# Altium integrated library Resistors.IntLib: 4954 symbols (part 14 of 32)
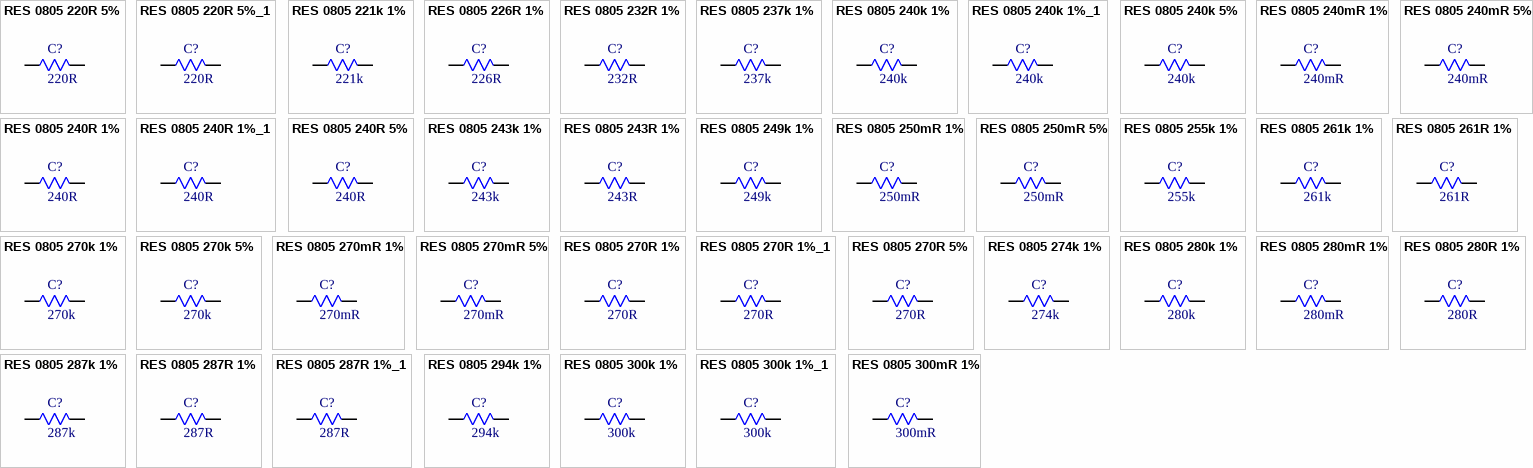
[diagram p136: symbols RES 0805 220R 5% to RES 0805 300mR 1%]

## RES 0805 226R 1%
designator C?, comment 226R
226R 1% 125mW 0805 Thick Film Resistor; Manufacturer: FOJAN; Manufacturer Part Number: FRC0805F2260TS; Voltage Rating: 150V; Supplier: LCSC; Supplier Part Number: C2999466; Resistance: 226R; Tolerance: 1%; Power: 125mW
footprint RES SMD 0805
pins: 1, 2

## RES 0805 232R 1%
designator C?, comment 232R
232R 1% 125mW 0805 Thick Film Resistor; Manufacturer: FOJAN; Manufacturer Part Number: FRC0805F2320TS; Voltage Rating: 150V; Supplier: LCSC; Supplier Part Number: C2933373; Resistance: 232R; Tolerance: 1%; Power: 125mW
footprint RES SMD 0805
pins: 1, 2

## RES 0805 237k 1%
designator C?, comment 237k
125mW 237kR 150V Thick Film Resistor 1% 0805 Chip Resistor - Surface Mount RoHS; Manufacturer: FOJAN; Manufacturer Part Number: FRC0805F2373TS; Supplier: LCSC; Supplier Part Number: C51048252; Resistance: 237k; Tolerance: 1%; Voltage Rating: 150V; Power: 125mW
footprint RES SMD 0805
pins: 1, 2

## RES 0805 240k 1%
designator C?, comment 240k
240kR 1% 125mW 0805 Thick Film Resistor; Manufacturer: FOJAN; Manufacturer Part Number: FRC0805F2403TS; Voltage Rating: 150V; Supplier: LCSC; Supplier Part Number: C2907245; Resistance: 240k; Tolerance: 1%; Power: 125mW
footprint RES SMD 0805
pins: 1, 2

## RES 0805 240k 1%_1
designator C?, comment 240k
125mW 240kR 400V Thick Film Resistor 1% 200ppm/â„ƒ 0805 Chip Resistor - Surface Mount RoHS; Manufacturer: FOJAN; Manufacturer Part Number: FRV0805F2403TS; Supplier: LCSC; Supplier Part Number: C51048340; Resistance: 240k; Tolerance: 1%; Voltage Rating: 400V; Power: 125mW
footprint RES SMD 0805
pins: 1, 2

## RES 0805 240k 5%
designator C?, comment 240k
240kR 5% 125mW 0805 Thick Film Resistor; Manufacturer: FOJAN; Manufacturer Part Number: FRC0805J244 TS; Voltage Rating: 150V; Supplier: LCSC; Supplier Part Number: C2960883; Resistance: 240k; Tolerance: 5%; Power: 125mW
footprint RES SMD 0805
pins: 1, 2

## RES 0805 240mR 1%
designator C?, comment 240mR
240mR 1% 125mW 0805 Thick Film Resistor; Manufacturer: FOJAN; Manufacturer Part Number: FRL0805FR240TS; Voltage Rating: 300V; Supplier: LCSC; Supplier Part Number: C2930216; Resistance: 240mR; Tolerance: 1%; Power: 125mW
footprint RES SMD 0805
pins: 1, 2

## RES 0805 240mR 5%
designator C?, comment 240mR
240mR 125mW Thick Film Resistor 300ppm/â„ƒ 5% 0805 Chip Resistor - Surface Mount RoHS; Manufacturer: FOJAN; Manufacturer Part Number: FRL0805JR240TS; Supplier: LCSC; Supplier Part Number: C7467398; Resistance: 240mR; Tolerance: 5%; Power: 125mW
footprint RES SMD 0805
pins: 1, 2

## RES 0805 240R 1%
designator C?, comment 240R
240R 1% 125mW 0805 Thick Film Resistor; Manufacturer: FOJAN; Manufacturer Part Number: FRC0805F2400TS; Voltage Rating: 150V; Supplier: LCSC; Supplier Part Number: C2933376; Resistance: 240R; Tolerance: 1%; Power: 125mW
footprint RES SMD 0805
pins: 1, 2

## RES 0805 240R 1%_1
designator C?, comment 240R
125mW 240R Thick Film Resistor 1% 100ppm/â„ƒ 0805 Chip Resistor - Surface Mount RoHS; Manufacturer: FOJAN; Manufacturer Part Number: FRQ0805F2400TS; Supplier: LCSC; Supplier Part Number: C7468676; Resistance: 240R; Tolerance: 1%; Power: 125mW
footprint RES SMD 0805
pins: 1, 2

## RES 0805 240R 5%
designator C?, comment 240R
240R 5% 125mW 0805 Thick Film Resistor; Manufacturer: FOJAN; Manufacturer Part Number: FRC0805J241 TS; Voltage Rating: 150V; Supplier: LCSC; Supplier Part Number: C3013236; Resistance: 240R; Tolerance: 5%; Power: 125mW
footprint RES SMD 0805
pins: 1, 2

## RES 0805 243k 1%
designator C?, comment 243k
243kR 1% 125mW 0805 Thick Film Resistor; Manufacturer: FOJAN; Manufacturer Part Number: FRC0805F2433TS; Voltage Rating: 150V; Supplier: LCSC; Supplier Part Number: C2930186; Resistance: 243k; Tolerance: 1%; Power: 125mW
footprint RES SMD 0805
pins: 1, 2

## RES 0805 243R 1%
designator C?, comment 243R
243R 1% 125mW 0805 Thick Film Resistor; Manufacturer: FOJAN; Manufacturer Part Number: FRC0805F2430TS; Voltage Rating: 150V; Supplier: LCSC; Supplier Part Number: C5159715; Resistance: 243R; Tolerance: 1%; Power: 125mW
footprint RES SMD 0805
pins: 1, 2

## RES 0805 249k 1%
designator C?, comment 249k
249kR 1% 125mW 0805 Thick Film Resistor; Manufacturer: FOJAN; Manufacturer Part Number: FRC0805F2493TS; Voltage Rating: 150V; Supplier: LCSC; Supplier Part Number: C3000730; Resistance: 249k; Tolerance: 1%; Power: 125mW
footprint RES SMD 0805
pins: 1, 2

## RES 0805 250mR 1%
designator C?, comment 250mR
250mR 1% 125mW 0805 Thick Film Resistor; Manufacturer: FOJAN; Manufacturer Part Number: FRL0805FR250TS; Voltage Rating: 300V; Supplier: LCSC; Supplier Part Number: C3000552; Resistance: 250mR; Tolerance: 1%; Power: 125mW
footprint RES SMD 0805
pins: 1, 2

## RES 0805 250mR 5%
designator C?, comment 250mR
250mR 5% 125mW 0805 Thick Film Resistor; Manufacturer: FOJAN; Manufacturer Part Number: FRL0805JR250TS; Voltage Rating: 300V; Supplier: LCSC; Supplier Part Number: C2930324; Resistance: 250mR; Tolerance: 5%; Power: 125mW
footprint RES SMD 0805
pins: 1, 2

## RES 0805 255k 1%
designator C?, comment 255k
255kR 1% 125mW 0805 Thick Film Resistor; Manufacturer: FOJAN; Manufacturer Part Number: FRC0805F2553TS; Voltage Rating: 150V; Supplier: LCSC; Supplier Part Number: C2933384; Resistance: 255k; Tolerance: 1%; Power: 125mW
footprint RES SMD 0805
pins: 1, 2

## RES 0805 261k 1%
designator C?, comment 261k
261kR 1% 125mW 0805 Thick Film Resistor; Manufacturer: FOJAN; Manufacturer Part Number: FRC0805F2613TS; Voltage Rating: 150V; Supplier: LCSC; Supplier Part Number: C2933387; Resistance: 261k; Tolerance: 1%; Power: 125mW
footprint RES SMD 0805
pins: 1, 2

## RES 0805 261R 1%
designator C?, comment 261R
125mW 261R 150V Thick Film Resistor 1% 100ppm/â„ƒ 0805 Chip Resistor - Surface Mount RoHS; Manufacturer: FOJAN; Manufacturer Part Number: FRC0805F2610TS; Supplier: LCSC; Supplier Part Number: C7467324; Resistance: 261R; Tolerance: 1%; Voltage Rating: 150V; Power: 125mW
footprint RES SMD 0805
pins: 1, 2

## RES 0805 270k 1%
designator C?, comment 270k
270kR 1% 125mW 0805 Thick Film Resistor; Manufacturer: FOJAN; Manufacturer Part Number: FRC0805F2703TS; Voltage Rating: 150V; Supplier: LCSC; Supplier Part Number: C2930189; Resistance: 270k; Tolerance: 1%; Power: 125mW
footprint RES SMD 0805
pins: 1, 2

## RES 0805 270k 5%
designator C?, comment 270k
270kR 5% 125mW 0805 Thick Film Resistor; Manufacturer: FOJAN; Manufacturer Part Number: FRC0805J274 TS; Voltage Rating: 150V; Supplier: LCSC; Supplier Part Number: C2907312; Resistance: 270k; Tolerance: 5%; Power: 125mW
footprint RES SMD 0805
pins: 1, 2

## RES 0805 270mR 1%
designator C?, comment 270mR
270mR 1% 125mW 0805 Thick Film Resistor; Manufacturer: FOJAN; Manufacturer Part Number: FRL0805FR270TS; Voltage Rating: 300V; Supplier: LCSC; Supplier Part Number: C2934263; Resistance: 270mR; Tolerance: 1%; Power: 125mW
footprint RES SMD 0805
pins: 1, 2

## RES 0805 270mR 5%
designator C?, comment 270mR
270mR 5% 125mW 0805 Thick Film Resistor; Manufacturer: FOJAN; Manufacturer Part Number: FRL0805JR270TS; Voltage Rating: 300V; Supplier: LCSC; Supplier Part Number: C2934279; Resistance: 270mR; Tolerance: 5%; Power: 125mW
footprint RES SMD 0805
pins: 1, 2

## RES 0805 270R 1%
designator C?, comment 270R
125mW 270R Thick Film Resistor 1% 100ppm/â„ƒ 0805 Chip Resistor - Surface Mount RoHS; Manufacturer: FOJAN; Manufacturer Part Number: FRQ0805F2700TS; Supplier: LCSC; Supplier Part Number: C7468600; Resistance: 270R; Tolerance: 1%; Power: 125mW
footprint RES SMD 0805
pins: 1, 2

## RES 0805 270R 1%_1
designator C?, comment 270R
270R 1% 125mW 0805 Thick Film Resistor; Manufacturer: FOJAN; Manufacturer Part Number: FRC0805F2700TS; Voltage Rating: 150V; Supplier: LCSC; Supplier Part Number: C2933389; Resistance: 270R; Tolerance: 1%; Power: 125mW
footprint RES SMD 0805
pins: 1, 2

## RES 0805 270R 5%
designator C?, comment 270R
270R 5% 125mW 0805 Thick Film Resistor; Manufacturer: FOJAN; Manufacturer Part Number: FRC0805J271 TS; Voltage Rating: 150V; Supplier: LCSC; Supplier Part Number: C2907313; Resistance: 270R; Tolerance: 5%; Power: 125mW
footprint RES SMD 0805
pins: 1, 2

## RES 0805 274k 1%
designator C?, comment 274k
274kR 1% 125mW 0805 Thick Film Resistor; Manufacturer: FOJAN; Manufacturer Part Number: FRC0805F2743TS; Voltage Rating: 150V; Supplier: LCSC; Supplier Part Number: C2933392; Resistance: 274k; Tolerance: 1%; Power: 125mW
footprint RES SMD 0805
pins: 1, 2

## RES 0805 280k 1%
designator C?, comment 280k
280kR 1% 125mW 0805 Thick Film Resistor; Manufacturer: FOJAN; Manufacturer Part Number: FRC0805F2803TS; Voltage Rating: 150V; Supplier: LCSC; Supplier Part Number: C5121536; Resistance: 280k; Tolerance: 1%; Power: 125mW
footprint RES SMD 0805
pins: 1, 2

## RES 0805 280mR 1%
designator C?, comment 280mR
280mR 1% 125mW 0805 Thick Film Resistor; Manufacturer: FOJAN; Manufacturer Part Number: FRL0805FR280TS; Voltage Rating: 300V; Supplier: LCSC; Supplier Part Number: C5159727; Resistance: 280mR; Tolerance: 1%; Power: 125mW
footprint RES SMD 0805
pins: 1, 2

## RES 0805 280R 1%
designator C?, comment 280R
280R 1% 125mW 0805 Thick Film Resistor; Manufacturer: FOJAN; Manufacturer Part Number: FRC0805F2800TS; Voltage Rating: 150V; Supplier: LCSC; Supplier Part Number: C2960739; Resistance: 280R; Tolerance: 1%; Power: 125mW
footprint RES SMD 0805
pins: 1, 2

## RES 0805 287k 1%
designator C?, comment 287k
287kR 1% 125mW 0805 Thick Film Resistor; Manufacturer: FOJAN; Manufacturer Part Number: FRC0805F2873TS; Voltage Rating: 150V; Supplier: LCSC; Supplier Part Number: C2933396; Resistance: 287k; Tolerance: 1%; Power: 125mW
footprint RES SMD 0805
pins: 1, 2

## RES 0805 287R 1%
designator C?, comment 287R
125mW 287R Thick Film Resistor 1% 100ppm/â„ƒ 0805 Chip Resistor - Surface Mount RoHS; Manufacturer: FOJAN; Manufacturer Part Number: FRQ0805F2870TS; Supplier: LCSC; Supplier Part Number: C7471244; Resistance: 287R; Tolerance: 1%; Power: 125mW
footprint RES SMD 0805
pins: 1, 2

## RES 0805 287R 1%_1
designator C?, comment 287R
125mW 287R 150V Thick Film Resistor 100ppm/â„ƒ 1% 0805 Chip Resistor - Surface Mount RoHS; Manufacturer: FOJAN; Manufacturer Part Number: FRC0805F2870TS; Supplier: LCSC; Supplier Part Number: C51048272; Resistance: 287R; Tolerance: 1%; Voltage Rating: 150V; Power: 125mW
footprint RES SMD 0805
pins: 1, 2

## RES 0805 294k 1%
designator C?, comment 294k
294kR 1% 125mW 0805 Thick Film Resistor; Manufacturer: FOJAN; Manufacturer Part Number: FRC0805F2943TS; Voltage Rating: 150V; Supplier: LCSC; Supplier Part Number: C2999631; Resistance: 294k; Tolerance: 1%; Power: 125mW
footprint RES SMD 0805
pins: 1, 2

## RES 0805 300k 1%
designator C?, comment 300k
300kR 1% 125mW 0805 Thick Film Resistor; Manufacturer: FOJAN; Manufacturer Part Number: FRC0805F3003TS; Voltage Rating: 150V; Supplier: LCSC; Supplier Part Number: C2907253; Resistance: 300k; Tolerance: 1%; Power: 125mW
footprint RES SMD 0805
pins: 1, 2

## RES 0805 300k 1%_1
designator C?, comment 300k
300kR 1% 125mW 0805 Thick Film Resistor; Manufacturer: FOJAN; Manufacturer Part Number: FRV0805F3003TS; Voltage Rating: 400V; Supplier: LCSC; Supplier Part Number: C5713480; Resistance: 300k; Tolerance: 1%; Power: 125mW
footprint RES SMD 0805
pins: 1, 2

## RES 0805 300mR 1%
designator C?, comment 300mR
300mR 1% 125mW 0805 Thick Film Resistor; Manufacturer: FOJAN; Manufacturer Part Number: FRL0805FR300TS; Voltage Rating: 300V; Supplier: LCSC; Supplier Part Number: C2934264; Resistance: 300mR; Tolerance: 1%; Power: 125mW
footprint RES SMD 0805
pins: 1, 2

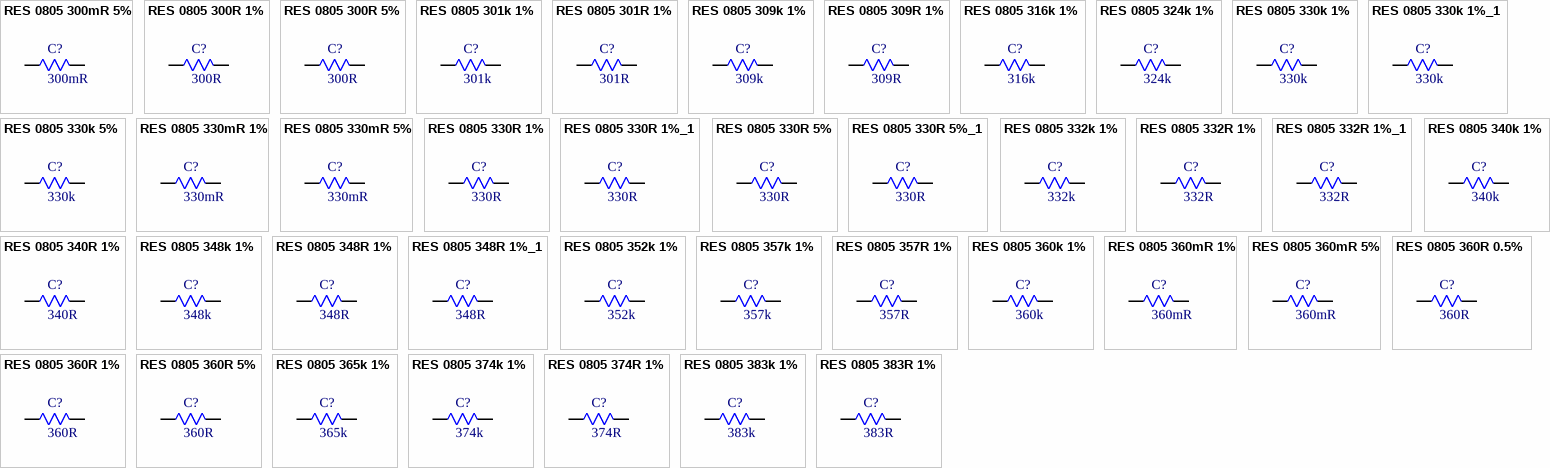
[diagram p53: symbols RES 0805 300mR 5% to RES 0805 383R 1%]

## RES 0805 300mR 5%
designator C?, comment 300mR
300mR 5% 125mW 0805 Thick Film Resistor; Manufacturer: FOJAN; Manufacturer Part Number: FRL0805JR300TS; Voltage Rating: 300V; Supplier: LCSC; Supplier Part Number: C2934280; Resistance: 300mR; Tolerance: 5%; Power: 125mW
footprint RES SMD 0805
pins: 1, 2

## RES 0805 300R 1%
designator C?, comment 300R
125mW 300R 150V Thick Film Resistor 1% 100ppm/â„ƒ 0805 Chip Resistor - Surface Mount RoHS; Manufacturer: FOJAN; Manufacturer Part Number: FRQ0805F3000TS; Supplier: LCSC; Supplier Part Number: C7468669; Resistance: 300R; Tolerance: 1%; Voltage Rating: 150V; Power: 125mW
footprint RES SMD 0805
pins: 1, 2

## RES 0805 300R 5%
designator C?, comment 300R
300R 5% 125mW 0805 Thick Film Resistor; Manufacturer: FOJAN; Manufacturer Part Number: FRC0805J301 TS; Voltage Rating: 150V; Supplier: LCSC; Supplier Part Number: C2907318; Resistance: 300R; Tolerance: 5%; Power: 125mW
footprint RES SMD 0805
pins: 1, 2

## RES 0805 301k 1%
designator C?, comment 301k
125mW 301kR 150V Thick Film Resistor 100ppm/â„ƒ 1% 0805 Chip Resistor - Surface Mount RoHS; Manufacturer: FOJAN; Manufacturer Part Number: FRC0805F3013TS; Supplier: LCSC; Supplier Part Number: C48533784; Resistance: 301k; Tolerance: 1%; Voltage Rating: 150V; Power: 125mW
footprint RES SMD 0805
pins: 1, 2

## RES 0805 301R 1%
designator C?, comment 301R
301R 1% 125mW 0805 Thick Film Resistor; Manufacturer: FOJAN; Manufacturer Part Number: FRC0805F3010TS; Voltage Rating: 150V; Supplier: LCSC; Supplier Part Number: C5121538; Resistance: 301R; Tolerance: 1%; Power: 125mW
footprint RES SMD 0805
pins: 1, 2

## RES 0805 309k 1%
designator C?, comment 309k
125mW 309kR 150V Thick Film Resistor 100ppm/â„ƒ 1% 0805 Chip Resistor - Surface Mount RoHS; Manufacturer: FOJAN; Manufacturer Part Number: FRC0805F3093TS; Supplier: LCSC; Supplier Part Number: C49196865; Resistance: 309k; Tolerance: 1%; Voltage Rating: 150V; Power: 125mW
footprint RES SMD 0805
pins: 1, 2

## RES 0805 309R 1%
designator C?, comment 309R
309R 1% 125mW 0805 Thick Film Resistor; Manufacturer: FOJAN; Manufacturer Part Number: FRC0805F3090TS; Voltage Rating: 150V; Supplier: LCSC; Supplier Part Number: C2999493; Resistance: 309R; Tolerance: 1%; Power: 125mW
footprint RES SMD 0805
pins: 1, 2

## RES 0805 316k 1%
designator C?, comment 316k
316kR 1% 125mW 0805 Thick Film Resistor; Manufacturer: FOJAN; Manufacturer Part Number: FRC0805F3163TS; Voltage Rating: 150V; Supplier: LCSC; Supplier Part Number: C5126007; Resistance: 316k; Tolerance: 1%; Power: 125mW
footprint RES SMD 0805
pins: 1, 2

## RES 0805 324k 1%
designator C?, comment 324k
324kR 1% 125mW 0805 Thick Film Resistor; Manufacturer: FOJAN; Manufacturer Part Number: FRC0805F3243TS; Voltage Rating: 150V; Supplier: LCSC; Supplier Part Number: C3013217; Resistance: 324k; Tolerance: 1%; Power: 125mW
footprint RES SMD 0805
pins: 1, 2

## RES 0805 330k 1%
designator C?, comment 330k
330kR 1% 125mW 0805 Thick Film Resistor; Manufacturer: FOJAN; Manufacturer Part Number: FRC0805F3303TS; Voltage Rating: 150V; Supplier: LCSC; Supplier Part Number: C2907257; Resistance: 330k; Tolerance: 1%; Power: 125mW
footprint RES SMD 0805
pins: 1, 2

## RES 0805 330k 1%_1
designator C?, comment 330k
125mW 330kR Thick Film Resistor 100ppm/â„ƒ 1% 0805 Chip Resistor - Surface Mount RoHS; Manufacturer: FOJAN; Manufacturer Part Number: FRV0805F3303TS; Supplier: LCSC; Supplier Part Number: C22375127; Resistance: 330k; Tolerance: 1%; Power: 125mW
footprint RES SMD 0805
pins: 1, 2

## RES 0805 330k 5%
designator C?, comment 330k
330kR 5% 125mW 0805 Thick Film Resistor; Manufacturer: FOJAN; Manufacturer Part Number: FRC0805J334 TS; Voltage Rating: 150V; Supplier: LCSC; Supplier Part Number: C2907320; Resistance: 330k; Tolerance: 5%; Power: 125mW
footprint RES SMD 0805
pins: 1, 2

## RES 0805 330mR 1%
designator C?, comment 330mR
330mR 1% 125mW 0805 Thick Film Resistor; Manufacturer: FOJAN; Manufacturer Part Number: FRL0805FR330TS; Voltage Rating: 300V; Supplier: LCSC; Supplier Part Number: C2934265; Resistance: 330mR; Tolerance: 1%; Power: 125mW
footprint RES SMD 0805
pins: 1, 2

## RES 0805 330mR 5%
designator C?, comment 330mR
330mR 5% 125mW 0805 Thick Film Resistor; Manufacturer: FOJAN; Manufacturer Part Number: FRL0805JR330TS; Voltage Rating: 300V; Supplier: LCSC; Supplier Part Number: C2930325; Resistance: 330mR; Tolerance: 5%; Power: 125mW
footprint RES SMD 0805
pins: 1, 2

## RES 0805 330R 1%
designator C?, comment 330R
330R 1% 125mW 0805 Thick Film Resistor; Manufacturer: FOJAN; Manufacturer Part Number: FRC0805F3300TS; Voltage Rating: 150V; Supplier: LCSC; Supplier Part Number: C2930157; Resistance: 330R; Tolerance: 1%; Power: 125mW
footprint RES SMD 0805
pins: 1, 2

## RES 0805 330R 1%_1
designator C?, comment 330R
330R 1% 125mW 0805 Thick Film Resistor AEC-Q200; Manufacturer: FOJAN; Manufacturer Part Number: FRQ0805F3300TS; Voltage Rating: 150V; Supplier: LCSC; Supplier Part Number: C5713448; Resistance: 330R; Tolerance: 1%; Power: 125mW
footprint RES SMD 0805
pins: 1, 2

## RES 0805 330R 5%
designator C?, comment 330R
330R 5% 125mW 0805 Thick Film Resistor; Manufacturer: FOJAN; Manufacturer Part Number: FRC0805J331 TS; Voltage Rating: 150V; Supplier: LCSC; Supplier Part Number: C2907321; Resistance: 330R; Tolerance: 5%; Power: 125mW
footprint RES SMD 0805
pins: 1, 2

## RES 0805 330R 5%_1
designator C?, comment 330R
125mW 330R 150V Thick Film Resistor 100ppm/â„ƒ 5% 0805 Chip Resistor - Surface Mount RoHS; Manufacturer: FOJAN; Manufacturer Part Number: FRR0805J331 TS; Supplier: LCSC; Supplier Part Number: C49196830; Resistance: 330R; Tolerance: 5%; Voltage Rating: 150V; Power: 125mW
footprint RES SMD 0805
pins: 1, 2

## RES 0805 332k 1%
designator C?, comment 332k
332kR 1% 125mW 0805 Thick Film Resistor; Manufacturer: FOJAN; Manufacturer Part Number: FRC0805F3323TS; Voltage Rating: 150V; Supplier: LCSC; Supplier Part Number: C5713304; Resistance: 332k; Tolerance: 1%; Power: 125mW
footprint RES SMD 0805
pins: 1, 2

## RES 0805 332R 1%
designator C?, comment 332R
125mW 332R 150V Thick Film Resistor 100ppm/â„ƒ 1% 0805 Chip Resistor - Surface Mount RoHS; Manufacturer: FOJAN; Manufacturer Part Number: FRC0805F3320TS; Supplier: LCSC; Supplier Part Number: C48533734; Resistance: 332R; Tolerance: 1%; Voltage Rating: 150V; Power: 125mW
footprint RES SMD 0805
pins: 1, 2

## RES 0805 332R 1%_1
designator C?, comment 332R
125mW 332R 150V Thick Film Resistor 1% 100ppm/â„ƒ 0805 Chip Resistor - Surface Mount RoHS; Manufacturer: FOJAN; Manufacturer Part Number: FRQ0805F3320TS; Supplier: LCSC; Supplier Part Number: C7468670; Resistance: 332R; Tolerance: 1%; Voltage Rating: 150V; Power: 125mW
footprint RES SMD 0805
pins: 1, 2

## RES 0805 340k 1%
designator C?, comment 340k
340kR 1% 125mW 0805 Thick Film Resistor; Manufacturer: FOJAN; Manufacturer Part Number: FRC0805F3403TS; Voltage Rating: 150V; Supplier: LCSC; Supplier Part Number: C2933421; Resistance: 340k; Tolerance: 1%; Power: 125mW
footprint RES SMD 0805
pins: 1, 2

## RES 0805 340R 1%
designator C?, comment 340R
125mW 340R 150V Thick Film Resistor 1% 100ppm/â„ƒ 0805 Chip Resistor - Surface Mount RoHS; Manufacturer: FOJAN; Manufacturer Part Number: FRC0805F3400TS; Supplier: LCSC; Supplier Part Number: C7467322; Resistance: 340R; Tolerance: 1%; Voltage Rating: 150V; Power: 125mW
footprint RES SMD 0805
pins: 1, 2

## RES 0805 348k 1%
designator C?, comment 348k
348kR 1% 125mW 0805 Thick Film Resistor; Manufacturer: FOJAN; Manufacturer Part Number: FRC0805F3483TS; Voltage Rating: 150V; Supplier: LCSC; Supplier Part Number: C5159717; Resistance: 348k; Tolerance: 1%; Power: 125mW
footprint RES SMD 0805
pins: 1, 2

## RES 0805 348R 1%
designator C?, comment 348R
348R 1% 125mW 0805 Thick Film Resistor; Manufacturer: FOJAN; Manufacturer Part Number: FRC0805F3480TS; Voltage Rating: 150V; Supplier: LCSC; Supplier Part Number: C5204013; Resistance: 348R; Tolerance: 1%; Power: 125mW
footprint RES SMD 0805
pins: 1, 2

## RES 0805 348R 1%_1
designator C?, comment 348R
348R 1% 125mW 0805 Thick Film Resistor AEC-Q200; Manufacturer: FOJAN; Manufacturer Part Number: FRQ0805F3480TS; Voltage Rating: 150V; Supplier: LCSC; Supplier Part Number: C5713449; Resistance: 348R; Tolerance: 1%; Power: 125mW
footprint RES SMD 0805
pins: 1, 2

## RES 0805 352k 1%
designator C?, comment 352k
125mW 352kR 150V Thick Film Resistor 1% 0805 Chip Resistor - Surface Mount RoHS; Manufacturer: FOJAN; Manufacturer Part Number: FRC0805F3523TS; Supplier: LCSC; Supplier Part Number: C51048263; Resistance: 352k; Tolerance: 1%; Voltage Rating: 150V; Power: 125mW
footprint RES SMD 0805
pins: 1, 2

## RES 0805 357k 1%
designator C?, comment 357k
125mW 357kR 150V Thick Film Resistor 100ppm/â„ƒ 1% 0805 Chip Resistor - Surface Mount RoHS; Manufacturer: FOJAN; Manufacturer Part Number: FRC0805F3573TS; Supplier: LCSC; Supplier Part Number: C48533730; Resistance: 357k; Tolerance: 1%; Voltage Rating: 150V; Power: 125mW
footprint RES SMD 0805
pins: 1, 2

## RES 0805 357R 1%
designator C?, comment 357R
357R 1% 125mW 0805 Thick Film Resistor; Manufacturer: FOJAN; Manufacturer Part Number: FRC0805F3570TS; Voltage Rating: 150V; Supplier: LCSC; Supplier Part Number: C42372163; Resistance: 357R; Tolerance: 1%; Power: 125mW
footprint RES SMD 0805
pins: 1, 2

## RES 0805 360k 1%
designator C?, comment 360k
360kR 1% 125mW 0805 Thick Film Resistor; Manufacturer: FOJAN; Manufacturer Part Number: FRC0805F3603TS; Voltage Rating: 150V; Supplier: LCSC; Supplier Part Number: C2907259; Resistance: 360k; Tolerance: 1%; Power: 125mW
footprint RES SMD 0805
pins: 1, 2

## RES 0805 360mR 1%
designator C?, comment 360mR
360mR 1% 125mW 0805 Thick Film Resistor; Manufacturer: FOJAN; Manufacturer Part Number: FRL0805FR360TS; Voltage Rating: 300V; Supplier: LCSC; Supplier Part Number: C2930217; Resistance: 360mR; Tolerance: 1%; Power: 125mW
footprint RES SMD 0805
pins: 1, 2

## RES 0805 360mR 5%
designator C?, comment 360mR
360mR 5% 125mW 0805 Thick Film Resistor; Manufacturer: FOJAN; Manufacturer Part Number: FRL0805JR360TS; Voltage Rating: 300V; Supplier: LCSC; Supplier Part Number: C3000777; Resistance: 360mR; Tolerance: 5%; Power: 125mW
footprint RES SMD 0805
pins: 1, 2

## RES 0805 360R 0.5%
designator C?, comment 360R
125mW 360R 150V Thick Film Resistor 100ppm/â„ƒ 0.5% 0805 Chip Resistor - Surface Mount RoHS; Manufacturer: FOJAN; Manufacturer Part Number: FRH0805D3600TS; Supplier: LCSC; Supplier Part Number: C48533737; Resistance: 360R; Tolerance: 0.5%; Voltage Rating: 150V; Power: 125mW
footprint RES SMD 0805
pins: 1, 2

## RES 0805 360R 1%
designator C?, comment 360R
360R 1% 125mW 0805 Thick Film Resistor; Manufacturer: FOJAN; Manufacturer Part Number: FRC0805F3600TS; Voltage Rating: 150V; Supplier: LCSC; Supplier Part Number: C2930158; Resistance: 360R; Tolerance: 1%; Power: 125mW
footprint RES SMD 0805
pins: 1, 2

## RES 0805 360R 5%
designator C?, comment 360R
360R 5% 125mW 0805 Thick Film Resistor; Manufacturer: FOJAN; Manufacturer Part Number: FRD0805J361TS; Voltage Rating: 150V; Supplier: LCSC; Supplier Part Number: C2930280; Resistance: 360R; Tolerance: 5%; Power: 125mW
footprint RES SMD 0805
pins: 1, 2

## RES 0805 365k 1%
designator C?, comment 365k
365kR 1% 125mW 0805 Thick Film Resistor; Manufacturer: FOJAN; Manufacturer Part Number: FRC0805F3653TS; Voltage Rating: 150V; Supplier: LCSC; Supplier Part Number: C2999471; Resistance: 365k; Tolerance: 1%; Power: 125mW
footprint RES SMD 0805
pins: 1, 2

## RES 0805 374k 1%
designator C?, comment 374k
374kR 1% 125mW 0805 Thick Film Resistor; Manufacturer: FOJAN; Manufacturer Part Number: FRC0805F3743TS; Voltage Rating: 150V; Supplier: LCSC; Supplier Part Number: C2933427; Resistance: 374k; Tolerance: 1%; Power: 125mW
footprint RES SMD 0805
pins: 1, 2

## RES 0805 374R 1%
designator C?, comment 374R
374R 1% 125mW 0805 Thick Film Resistor; Manufacturer: FOJAN; Manufacturer Part Number: FRC0805F3740TS; Voltage Rating: 150V; Supplier: LCSC; Supplier Part Number: C2999634; Resistance: 374R; Tolerance: 1%; Power: 125mW
footprint RES SMD 0805
pins: 1, 2

## RES 0805 383k 1%
designator C?, comment 383k
383kR 1% 125mW 0805 Thick Film Resistor; Manufacturer: FOJAN; Manufacturer Part Number: FRC0805F3833TS; Voltage Rating: 150V; Supplier: LCSC; Supplier Part Number: C5713305; Resistance: 383k; Tolerance: 1%; Power: 125mW
footprint RES SMD 0805
pins: 1, 2

## RES 0805 383R 1%
designator C?, comment 383R
383R 1% 125mW 0805 Thick Film Resistor; Manufacturer: FOJAN; Manufacturer Part Number: FRC0805F3830TS; Voltage Rating: 150V; Supplier: LCSC; Supplier Part Number: C2999498; Resistance: 383R; Tolerance: 1%; Power: 125mW
footprint RES SMD 0805
pins: 1, 2

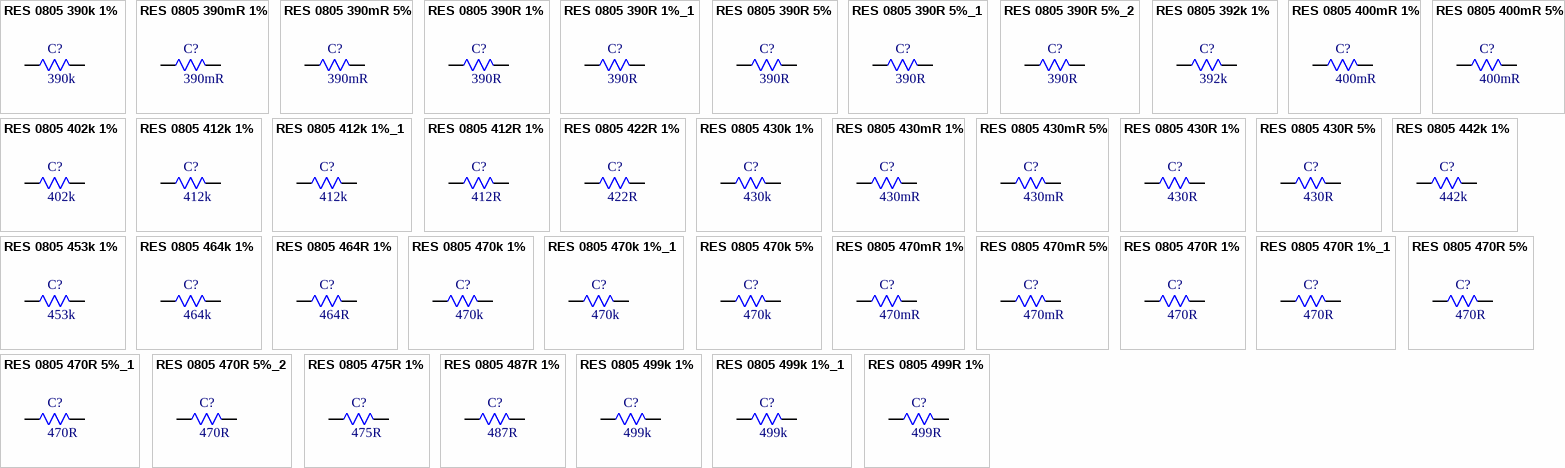
[diagram p54: symbols RES 0805 390k 1% to RES 0805 499R 1%]

## RES 0805 390k 1%
designator C?, comment 390k
390kR 1% 125mW 0805 Thick Film Resistor; Manufacturer: FOJAN; Manufacturer Part Number: FRC0805F3903TS; Voltage Rating: 150V; Supplier: LCSC; Supplier Part Number: C2907260; Resistance: 390k; Tolerance: 1%; Power: 125mW
footprint RES SMD 0805
pins: 1, 2

## RES 0805 390mR 1%
designator C?, comment 390mR
390mR 1% 125mW 0805 Thick Film Resistor; Manufacturer: FOJAN; Manufacturer Part Number: FRL0805FR390TS; Voltage Rating: 300V; Supplier: LCSC; Supplier Part Number: C2930218; Resistance: 390mR; Tolerance: 1%; Power: 125mW
footprint RES SMD 0805
pins: 1, 2

## RES 0805 390mR 5%
designator C?, comment 390mR
390mR 5% 125mW 0805 Thick Film Resistor; Manufacturer: FOJAN; Manufacturer Part Number: FRL0805JR390TS; Voltage Rating: 300V; Supplier: LCSC; Supplier Part Number: C2960746; Resistance: 390mR; Tolerance: 5%; Power: 125mW
footprint RES SMD 0805
pins: 1, 2

## RES 0805 390R 1%
designator C?, comment 390R
390R 1% 125mW 0805 Thick Film Resistor; Manufacturer: FOJAN; Manufacturer Part Number: FRC0805F3900TS; Voltage Rating: 150V; Supplier: LCSC; Supplier Part Number: C2907261; Resistance: 390R; Tolerance: 1%; Power: 125mW
footprint RES SMD 0805
pins: 1, 2

## RES 0805 390R 1%_1
designator C?, comment 390R
125mW 390R Thick Film Resistor 1% 100ppm/â„ƒ 0805 Chip Resistor - Surface Mount RoHS; Manufacturer: FOJAN; Manufacturer Part Number: FRQ0805F3900TS; Supplier: LCSC; Supplier Part Number: C7468556; Resistance: 390R; Tolerance: 1%; Power: 125mW
footprint RES SMD 0805
pins: 1, 2

## RES 0805 390R 5%
designator C?, comment 390R
390R 5% 125mW 0805 Thick Film Resistor; Manufacturer: FOJAN; Manufacturer Part Number: FRC0805J391 TS; Voltage Rating: 150V; Supplier: LCSC; Supplier Part Number: C2933548; Resistance: 390R; Tolerance: 5%; Power: 125mW
footprint RES SMD 0805
pins: 1, 2

## RES 0805 390R 5%_1
designator C?, comment 390R
390R 5% 125mW 0805 Thick Film Resistor; Manufacturer: FOJAN; Manufacturer Part Number: FRD0805J391 TS; Voltage Rating: 150V; Supplier: LCSC; Supplier Part Number: C2934164; Resistance: 390R; Tolerance: 5%; Power: 125mW
footprint RES SMD 0805
pins: 1, 2

## RES 0805 390R 5%_2
designator C?, comment 390R
125mW 390R 150V Thick Film Resistor 100ppm/â„ƒ 5% 0805 Chip Resistor - Surface Mount RoHS; Manufacturer: FOJAN; Manufacturer Part Number: FRR0805J391 TS; Supplier: LCSC; Supplier Part Number: C49196831; Resistance: 390R; Tolerance: 5%; Voltage Rating: 150V; Power: 125mW
footprint RES SMD 0805
pins: 1, 2

## RES 0805 392k 1%
designator C?, comment 392k
392kR 1% 125mW 0805 Thick Film Resistor; Manufacturer: FOJAN; Manufacturer Part Number: FRC0805F3923TS; Voltage Rating: 150V; Supplier: LCSC; Supplier Part Number: C5159718; Resistance: 392k; Tolerance: 1%; Power: 125mW
footprint RES SMD 0805
pins: 1, 2

## RES 0805 400mR 1%
designator C?, comment 400mR
400mR 1% 125mW 0805 Thick Film Resistor; Manufacturer: FOJAN; Manufacturer Part Number: FRL0805FR400TS; Voltage Rating: 300V; Supplier: LCSC; Supplier Part Number: C2934266; Resistance: 400mR; Tolerance: 1%; Power: 125mW
footprint RES SMD 0805
pins: 1, 2

## RES 0805 400mR 5%
designator C?, comment 400mR
400mR 5% 125mW 0805 Thick Film Resistor; Manufacturer: FOJAN; Manufacturer Part Number: FRL0805JR400TS; Voltage Rating: 300V; Supplier: LCSC; Supplier Part Number: C3000778; Resistance: 400mR; Tolerance: 5%; Power: 125mW
footprint RES SMD 0805
pins: 1, 2

## RES 0805 402k 1%
designator C?, comment 402k
402kR 1% 125mW 0805 Thick Film Resistor; Manufacturer: FOJAN; Manufacturer Part Number: FRC0805F4023TS; Voltage Rating: 150V; Supplier: LCSC; Supplier Part Number: C2930428; Resistance: 402k; Tolerance: 1%; Power: 125mW
footprint RES SMD 0805
pins: 1, 2

## RES 0805 412k 1%
designator C?, comment 412k
125mW 412kR 150V Thick Film Resistor 1% 100ppm/â„ƒ 0805 Chip Resistor - Surface Mount RoHS; Manufacturer: FOJAN; Manufacturer Part Number: FRC0805F4123TS; Supplier: LCSC; Supplier Part Number: C7467379; Resistance: 412k; Tolerance: 1%; Voltage Rating: 150V; Power: 125mW
footprint RES SMD 0805
pins: 1, 2

## RES 0805 412k 1%_1
designator C?, comment 412k
125mW 412kR Thick Film Resistor 1% 200ppm/â„ƒ 0805 Chip Resistor - Surface Mount RoHS; Manufacturer: FOJAN; Manufacturer Part Number: FRV0805F4123TS; Supplier: LCSC; Supplier Part Number: C22375107; Resistance: 412k; Tolerance: 1%; Power: 125mW
footprint RES SMD 0805
pins: 1, 2

## RES 0805 412R 1%
designator C?, comment 412R
412R 1% 125mW 0805 Thick Film Resistor; Manufacturer: FOJAN; Manufacturer Part Number: FRC0805F4120TS; Voltage Rating: 150V; Supplier: LCSC; Supplier Part Number: C5126135; Resistance: 412R; Tolerance: 1%; Power: 125mW
footprint RES SMD 0805
pins: 1, 2

## RES 0805 422R 1%
designator C?, comment 422R
422R 1% 125mW 0805 Thick Film Resistor; Manufacturer: FOJAN; Manufacturer Part Number: FRC0805F4220TS; Voltage Rating: 150V; Supplier: LCSC; Supplier Part Number: C5713307; Resistance: 422R; Tolerance: 1%; Power: 125mW
footprint RES SMD 0805
pins: 1, 2

## RES 0805 430k 1%
designator C?, comment 430k
430kR 1% 125mW 0805 Thick Film Resistor; Manufacturer: FOJAN; Manufacturer Part Number: FRC0805F4303TS; Voltage Rating: 150V; Supplier: LCSC; Supplier Part Number: C2930199; Resistance: 430k; Tolerance: 1%; Power: 125mW
footprint RES SMD 0805
pins: 1, 2

## RES 0805 430mR 1%
designator C?, comment 430mR
430mR 1% 125mW 0805 Thick Film Resistor; Manufacturer: FOJAN; Manufacturer Part Number: FRL0805FR430TS; Voltage Rating: 300V; Supplier: LCSC; Supplier Part Number: C2930219; Resistance: 430mR; Tolerance: 1%; Power: 125mW
footprint RES SMD 0805
pins: 1, 2

## RES 0805 430mR 5%
designator C?, comment 430mR
430mR 5% 125mW 0805 Thick Film Resistor; Manufacturer: FOJAN; Manufacturer Part Number: FRL0805JR430TS; Voltage Rating: 300V; Supplier: LCSC; Supplier Part Number: C2930326; Resistance: 430mR; Tolerance: 5%; Power: 125mW
footprint RES SMD 0805
pins: 1, 2

## RES 0805 430R 1%
designator C?, comment 430R
430R 1% 125mW 0805 Thick Film Resistor; Manufacturer: FOJAN; Manufacturer Part Number: FRC0805F4300TS; Voltage Rating: 150V; Supplier: LCSC; Supplier Part Number: C2907265; Resistance: 430R; Tolerance: 1%; Power: 125mW
footprint RES SMD 0805
pins: 1, 2

## RES 0805 430R 5%
designator C?, comment 430R
430R 5% 125mW 0805 Thick Film Resistor; Manufacturer: FOJAN; Manufacturer Part Number: FRC0805J431 TS; Voltage Rating: 150V; Supplier: LCSC; Supplier Part Number: C2907328; Resistance: 430R; Tolerance: 5%; Power: 125mW
footprint RES SMD 0805
pins: 1, 2

## RES 0805 442k 1%
designator C?, comment 442k
442kR 1% 125mW 0805 Thick Film Resistor; Manufacturer: FOJAN; Manufacturer Part Number: FRC0805F4423TS; Voltage Rating: 150V; Supplier: LCSC; Supplier Part Number: C2999502; Resistance: 442k; Tolerance: 1%; Power: 125mW
footprint RES SMD 0805
pins: 1, 2

## RES 0805 453k 1%
designator C?, comment 453k
453kR 1% 125mW 0805 Thick Film Resistor; Manufacturer: FOJAN; Manufacturer Part Number: FRC0805F4533TS; Voltage Rating: 150V; Supplier: LCSC; Supplier Part Number: C5121540; Resistance: 453k; Tolerance: 1%; Power: 125mW
footprint RES SMD 0805
pins: 1, 2

## RES 0805 464k 1%
designator C?, comment 464k
464kR 1% 125mW 0805 Thick Film Resistor; Manufacturer: FOJAN; Manufacturer Part Number: FRC0805F4643TS; Voltage Rating: 150V; Supplier: LCSC; Supplier Part Number: C5121541; Resistance: 464k; Tolerance: 1%; Power: 125mW
footprint RES SMD 0805
pins: 1, 2

## RES 0805 464R 1%
designator C?, comment 464R
464R 125mW 150V 100ppm/â„ƒ 1% 0805 Chip Resistor - Surface Mount RoHS; Manufacturer: FOJAN; Manufacturer Part Number: FRC0805F4640TS; Supplier: LCSC; Supplier Part Number: C42372164; Resistance: 464R; Tolerance: 1%; Voltage Rating: 150V; Power: 125mW
footprint RES SMD 0805
pins: 1, 2

## RES 0805 470k 1%
designator C?, comment 470k
470kR 1% 125mW 0805 Thick Film Resistor; Manufacturer: FOJAN; Manufacturer Part Number: FRC0805F4703TS; Voltage Rating: 150V; Supplier: LCSC; Supplier Part Number: C2960743; Resistance: 470k; Tolerance: 1%; Power: 125mW
footprint RES SMD 0805
pins: 1, 2

## RES 0805 470k 1%_1
designator C?, comment 470k
125mW 470kR 150V Thick Film Resistor 100ppm/â„ƒ 1% 0805 Chip Resistor - Surface Mount RoHS; Manufacturer: FOJAN; Manufacturer Part Number: FRQ0805F4703TS; Supplier: LCSC; Supplier Part Number: C18222268; Resistance: 470k; Tolerance: 1%; Voltage Rating: 150V; Power: 125mW
footprint RES SMD 0805
pins: 1, 2

## RES 0805 470k 5%
designator C?, comment 470k
470kR 5% 125mW 0805 Thick Film Resistor; Manufacturer: FOJAN; Manufacturer Part Number: FRC0805J474TS; Voltage Rating: 150V; Supplier: LCSC; Supplier Part Number: C2930293; Resistance: 470k; Tolerance: 5%; Power: 125mW
footprint RES SMD 0805
pins: 1, 2

## RES 0805 470mR 1%
designator C?, comment 470mR
470mR 1% 125mW 0805 Thick Film Resistor; Manufacturer: FOJAN; Manufacturer Part Number: FRL0805FR470TS; Voltage Rating: 300V; Supplier: LCSC; Supplier Part Number: C2930220; Resistance: 470mR; Tolerance: 1%; Power: 125mW
footprint RES SMD 0805
pins: 1, 2

## RES 0805 470mR 5%
designator C?, comment 470mR
470mR 5% 125mW 0805 Thick Film Resistor; Manufacturer: FOJAN; Manufacturer Part Number: FRL0805JR470TS; Voltage Rating: 300V; Supplier: LCSC; Supplier Part Number: C2930327; Resistance: 470mR; Tolerance: 5%; Power: 125mW
footprint RES SMD 0805
pins: 1, 2

## RES 0805 470R 1%
designator C?, comment 470R
470R 1% 125mW 0805 Thick Film Resistor; Manufacturer: FOJAN; Manufacturer Part Number: FRC0805F4700TS; Voltage Rating: 150V; Supplier: LCSC; Supplier Part Number: C2907267; Resistance: 470R; Tolerance: 1%; Power: 125mW
footprint RES SMD 0805
pins: 1, 2

## RES 0805 470R 1%_1
designator C?, comment 470R
125mW 470R Thick Film Resistor 1% 100ppm/â„ƒ 0805 Chip Resistor - Surface Mount RoHS; Manufacturer: FOJAN; Manufacturer Part Number: FRQ0805F4700TS; Supplier: LCSC; Supplier Part Number: C7468561; Resistance: 470R; Tolerance: 1%; Power: 125mW
footprint RES SMD 0805
pins: 1, 2

## RES 0805 470R 5%
designator C?, comment 470R
470R 5% 125mW 0805 Thick Film Resistor; Manufacturer: FOJAN; Manufacturer Part Number: FRC0805J471 TS; Voltage Rating: 150V; Supplier: LCSC; Supplier Part Number: C2907329; Resistance: 470R; Tolerance: 5%; Power: 125mW
footprint RES SMD 0805
pins: 1, 2

## RES 0805 470R 5%_1
designator C?, comment 470R
470R 5% 125mW 0805 Thick Film Resistor; Manufacturer: FOJAN; Manufacturer Part Number: FRD0805J471 TS; Voltage Rating: 150V; Supplier: LCSC; Supplier Part Number: C2934172; Resistance: 470R; Tolerance: 5%; Power: 125mW
footprint RES SMD 0805
pins: 1, 2

## RES 0805 470R 5%_2
designator C?, comment 470R
125mW 470R 150V Thick Film Resistor 100ppm/â„ƒ 5% 0805 Chip Resistor - Surface Mount RoHS; Manufacturer: FOJAN; Manufacturer Part Number: FRQ0805J471 TS; Supplier: LCSC; Supplier Part Number: C18222270; Resistance: 470R; Tolerance: 5%; Voltage Rating: 150V; Power: 125mW
footprint RES SMD 0805
pins: 1, 2

## RES 0805 475R 1%
designator C?, comment 475R
475R 1% 125mW 0805 Thick Film Resistor; Manufacturer: FOJAN; Manufacturer Part Number: FRC0805F4750TS; Voltage Rating: 150V; Supplier: LCSC; Supplier Part Number: C2933450; Resistance: 475R; Tolerance: 1%; Power: 125mW
footprint RES SMD 0805
pins: 1, 2

## RES 0805 487R 1%
designator C?, comment 487R
487R 1% 125mW 0805 Thick Film Resistor; Manufacturer: FOJAN; Manufacturer Part Number: FRC0805F4870TS; Voltage Rating: 150V; Supplier: LCSC; Supplier Part Number: C2999482; Resistance: 487R; Tolerance: 1%; Power: 125mW
footprint RES SMD 0805
pins: 1, 2

## RES 0805 499k 1%
designator C?, comment 499k
125mW 499kR 400V Thick Film Resistor 200ppm/â„ƒ 1% 0805 Chip Resistor - Surface Mount RoHS; Manufacturer: FOJAN; Manufacturer Part Number: FRV0805F4993TS; Supplier: LCSC; Supplier Part Number: C49196877; Resistance: 499k; Tolerance: 1%; Voltage Rating: 400V; Power: 125mW
footprint RES SMD 0805
pins: 1, 2

## RES 0805 499k 1%_1
designator C?, comment 499k
499kR 1% 125mW 0805 Thick Film Resistor; Manufacturer: FOJAN; Manufacturer Part Number: FRC0805F4993TS; Voltage Rating: 150V; Supplier: LCSC; Supplier Part Number: C2960934; Resistance: 499k; Tolerance: 1%; Power: 125mW
footprint RES SMD 0805
pins: 1, 2

## RES 0805 499R 1%
designator C?, comment 499R
499R 1% 125mW 0805 Thick Film Resistor; Manufacturer: FOJAN; Manufacturer Part Number: FRC0805F4990TS; Voltage Rating: 150V; Supplier: LCSC; Supplier Part Number: C2933453; Resistance: 499R; Tolerance: 1%; Power: 125mW
footprint RES SMD 0805
pins: 1, 2

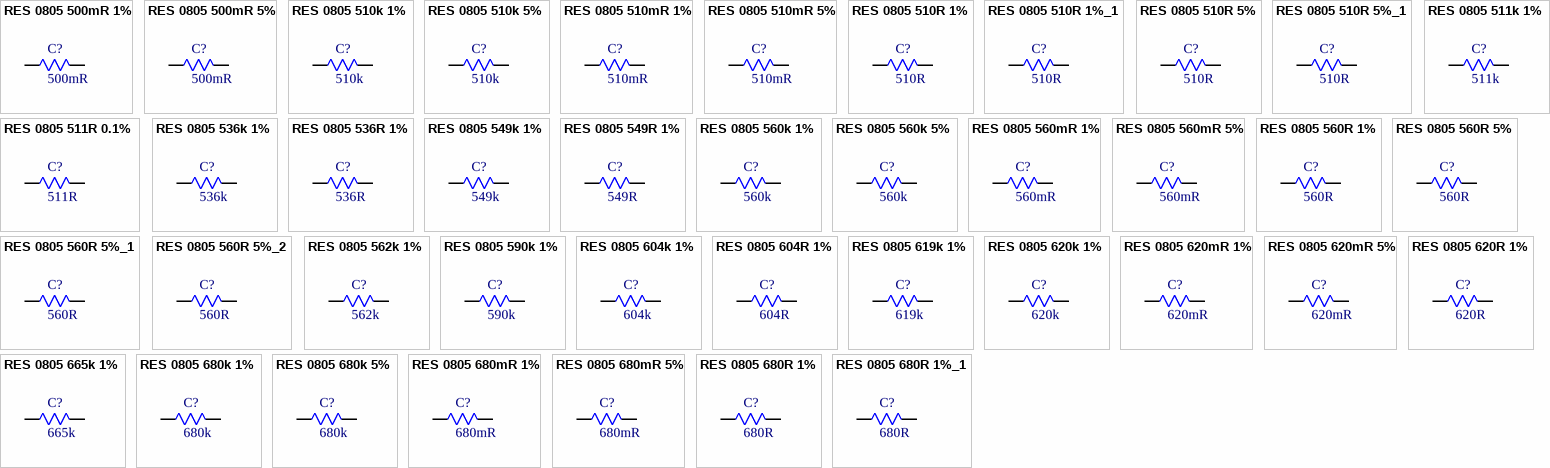
[diagram p55: symbols RES 0805 500mR 1% to RES 0805 680R 1%_1]

## RES 0805 500mR 1%
designator C?, comment 500mR
500mR 1% 125mW 0805 Thick Film Resistor; Manufacturer: FOJAN; Manufacturer Part Number: FRL0805FR500TS; Voltage Rating: 300V; Supplier: LCSC; Supplier Part Number: C2934267; Resistance: 500mR; Tolerance: 1%; Power: 125mW
footprint RES SMD 0805
pins: 1, 2

## RES 0805 500mR 5%
designator C?, comment 500mR
500mR 5% 125mW 0805 Thick Film Resistor; Manufacturer: FOJAN; Manufacturer Part Number: FRL0805JR500TS; Voltage Rating: 300V; Supplier: LCSC; Supplier Part Number: C2934281; Resistance: 500mR; Tolerance: 5%; Power: 125mW
footprint RES SMD 0805
pins: 1, 2

## RES 0805 510k 1%
designator C?, comment 510k
510kR 1% 125mW 0805 Thick Film Resistor; Manufacturer: FOJAN; Manufacturer Part Number: FRC0805F5103TS; Voltage Rating: 150V; Supplier: LCSC; Supplier Part Number: C2933462; Resistance: 510k; Tolerance: 1%; Power: 125mW
footprint RES SMD 0805
pins: 1, 2

## RES 0805 510k 5%
designator C?, comment 510k
510kR 5% 125mW 0805 Thick Film Resistor; Manufacturer: FOJAN; Manufacturer Part Number: FRC0805J514 TS; Voltage Rating: 150V; Supplier: LCSC; Supplier Part Number: C2907332; Resistance: 510k; Tolerance: 5%; Power: 125mW
footprint RES SMD 0805
pins: 1, 2

## RES 0805 510mR 1%
designator C?, comment 510mR
510mR 1% 125mW 0805 Thick Film Resistor; Manufacturer: FOJAN; Manufacturer Part Number: FRL0805FR510TS; Voltage Rating: 300V; Supplier: LCSC; Supplier Part Number: C2930221; Resistance: 510mR; Tolerance: 1%; Power: 125mW
footprint RES SMD 0805
pins: 1, 2

## RES 0805 510mR 5%
designator C?, comment 510mR
510mR 5% 125mW 0805 Thick Film Resistor; Manufacturer: FOJAN; Manufacturer Part Number: FRL0805JR510TS; Voltage Rating: 300V; Supplier: LCSC; Supplier Part Number: C2930328; Resistance: 510mR; Tolerance: 5%; Power: 125mW
footprint RES SMD 0805
pins: 1, 2

## RES 0805 510R 1%
designator C?, comment 510R
510R 1% 125mW 0805 Thick Film Resistor; Manufacturer: FOJAN; Manufacturer Part Number: FRC0805F5100TS; Voltage Rating: 150V; Supplier: LCSC; Supplier Part Number: C2907273; Resistance: 510R; Tolerance: 1%; Power: 125mW
footprint RES SMD 0805
pins: 1, 2

## RES 0805 510R 1%_1
designator C?, comment 510R
125mW 510R Thick Film Resistor 1% 100ppm/â„ƒ 0805 Chip Resistor - Surface Mount RoHS; Manufacturer: FOJAN; Manufacturer Part Number: FRQ0805F5100TS; Supplier: LCSC; Supplier Part Number: C7468585; Resistance: 510R; Tolerance: 1%; Power: 125mW
footprint RES SMD 0805
pins: 1, 2

## RES 0805 510R 5%
designator C?, comment 510R
510R 5% 125mW 0805 Thick Film Resistor; Manufacturer: FOJAN; Manufacturer Part Number: FRC0805J511 TS; Voltage Rating: 150V; Supplier: LCSC; Supplier Part Number: C2907333; Resistance: 510R; Tolerance: 5%; Power: 125mW
footprint RES SMD 0805
pins: 1, 2

## RES 0805 510R 5%_1
designator C?, comment 510R
510R 5% 125mW 0805 Thick Film Resistor; Manufacturer: FOJAN; Manufacturer Part Number: FRD0805J511 TS; Voltage Rating: 150V; Supplier: LCSC; Supplier Part Number: C2934176; Resistance: 510R; Tolerance: 5%; Power: 125mW
footprint RES SMD 0805
pins: 1, 2

## RES 0805 511k 1%
designator C?, comment 511k
511kR 1% 125mW 0805 Thick Film Resistor; Manufacturer: FOJAN; Manufacturer Part Number: FRC0805F5113TS; Voltage Rating: 150V; Supplier: LCSC; Supplier Part Number: C5159719; Resistance: 511k; Tolerance: 1%; Power: 125mW
footprint RES SMD 0805
pins: 1, 2

## RES 0805 511R 0.1%
designator C?, comment 511R
511R 125mW 150V Thick Film Resistor 0.1% 0805 Chip Resistor - Surface Mount RoHS; Manufacturer: FOJAN; Manufacturer Part Number: FRT0805B5110TSV; Supplier: LCSC; Supplier Part Number: C52033517; Resistance: 511R; Tolerance: 0.1%; Voltage Rating: 150V; Power: 125mW
footprint RES SMD 0805
pins: 1, 2

## RES 0805 536k 1%
designator C?, comment 536k
536kR 1% 125mW 0805 Thick Film Resistor; Manufacturer: FOJAN; Manufacturer Part Number: FRC0805F5363TS; Voltage Rating: 150V; Supplier: LCSC; Supplier Part Number: C42372166; Resistance: 536k; Tolerance: 1%; Power: 125mW
footprint RES SMD 0805
pins: 1, 2

## RES 0805 536R 1%
designator C?, comment 536R
536R 1% 125mW 0805 Thick Film Resistor; Manufacturer: FOJAN; Manufacturer Part Number: FRC0805F5360TS; Voltage Rating: 150V; Supplier: LCSC; Supplier Part Number: C5713309; Resistance: 536R; Tolerance: 1%; Power: 125mW
footprint RES SMD 0805
pins: 1, 2

## RES 0805 549k 1%
designator C?, comment 549k
549kR 1% 125mW 0805 Thick Film Resistor; Manufacturer: FOJAN; Manufacturer Part Number: FRC0805F5493TS; Voltage Rating: 150V; Supplier: LCSC; Supplier Part Number: C2933467; Resistance: 549k; Tolerance: 1%; Power: 125mW
footprint RES SMD 0805
pins: 1, 2

## RES 0805 549R 1%
designator C?, comment 549R
549R 125mW 150V Thick Film Resistor 100ppm/â„ƒ 1% 0805 Chip Resistor - Surface Mount RoHS; Manufacturer: FOJAN; Manufacturer Part Number: FRC0805F5490TS; Supplier: LCSC; Supplier Part Number: C5713310; Resistance: 549R; Tolerance: 1%; Voltage Rating: 150V; Power: 125mW
footprint RES SMD 0805
pins: 1, 2

## RES 0805 560k 1%
designator C?, comment 560k
560kR 1% 125mW 0805 Thick Film Resistor; Manufacturer: FOJAN; Manufacturer Part Number: FRC0805F5603TS; Voltage Rating: 150V; Supplier: LCSC; Supplier Part Number: C2930205; Resistance: 560k; Tolerance: 1%; Power: 125mW
footprint RES SMD 0805
pins: 1, 2

## RES 0805 560k 5%
designator C?, comment 560k
560kR 5% 125mW 0805 Thick Film Resistor; Manufacturer: FOJAN; Manufacturer Part Number: FRC0805J564 TS; Voltage Rating: 150V; Supplier: LCSC; Supplier Part Number: C2933556; Resistance: 560k; Tolerance: 5%; Power: 125mW
footprint RES SMD 0805
pins: 1, 2

## RES 0805 560mR 1%
designator C?, comment 560mR
560mR 1% 125mW 0805 Thick Film Resistor; Manufacturer: FOJAN; Manufacturer Part Number: FRL0805FR560TS; Voltage Rating: 300V; Supplier: LCSC; Supplier Part Number: C2934268; Resistance: 560mR; Tolerance: 1%; Power: 125mW
footprint RES SMD 0805
pins: 1, 2

## RES 0805 560mR 5%
designator C?, comment 560mR
560mR 5% 125mW 0805 Thick Film Resistor; Manufacturer: FOJAN; Manufacturer Part Number: FRL0805JR560TS; Voltage Rating: 300V; Supplier: LCSC; Supplier Part Number: C2974115; Resistance: 560mR; Tolerance: 5%; Power: 125mW
footprint RES SMD 0805
pins: 1, 2

## RES 0805 560R 1%
designator C?, comment 560R
560R 1% 125mW 0805 Thick Film Resistor; Manufacturer: FOJAN; Manufacturer Part Number: FRC0805F5600TS; Voltage Rating: 150V; Supplier: LCSC; Supplier Part Number: C2907274; Resistance: 560R; Tolerance: 1%; Power: 125mW
footprint RES SMD 0805
pins: 1, 2

## RES 0805 560R 5%
designator C?, comment 560R
560R 5% 125mW 0805 Thick Film Resistor AEC-Q200; Manufacturer: FOJAN; Manufacturer Part Number: FRQ0805J561 TS; Voltage Rating: 150V; Supplier: LCSC; Supplier Part Number: C2934404; Resistance: 560R; Tolerance: 5%; Power: 125mW
footprint RES SMD 0805
pins: 1, 2

## RES 0805 560R 5%_1
designator C?, comment 560R
560R 5% 125mW 0805 Thick Film Resistor; Manufacturer: FOJAN; Manufacturer Part Number: FRC0805J561 TS; Voltage Rating: 150V; Supplier: LCSC; Supplier Part Number: C2907335; Resistance: 560R; Tolerance: 5%; Power: 125mW
footprint RES SMD 0805
pins: 1, 2

## RES 0805 560R 5%_2
designator C?, comment 560R
560R 5% 125mW 0805 Thick Film Resistor; Manufacturer: FOJAN; Manufacturer Part Number: FRC0805J561TSD; Voltage Rating: 150V; Supplier: LCSC; Supplier Part Number: C2930302; Resistance: 560R; Tolerance: 5%; Power: 125mW
footprint RES SMD 0805
pins: 1, 2

## RES 0805 562k 1%
designator C?, comment 562k
562kR 1% 125mW 0805 Thick Film Resistor; Manufacturer: FOJAN; Manufacturer Part Number: FRC0805F5623TS; Voltage Rating: 150V; Supplier: LCSC; Supplier Part Number: C5713311; Resistance: 562k; Tolerance: 1%; Power: 125mW
footprint RES SMD 0805
pins: 1, 2

## RES 0805 590k 1%
designator C?, comment 590k
590kR 1% 125mW 0805 Thick Film Resistor; Manufacturer: FOJAN; Manufacturer Part Number: FRC0805F5903TS; Voltage Rating: 150V; Supplier: LCSC; Supplier Part Number: C2933473; Resistance: 590k; Tolerance: 1%; Power: 125mW
footprint RES SMD 0805
pins: 1, 2

## RES 0805 604k 1%
designator C?, comment 604k
604kR 1% 125mW 0805 Thick Film Resistor; Manufacturer: FOJAN; Manufacturer Part Number: FRC0805F6043TS; Voltage Rating: 150V; Supplier: LCSC; Supplier Part Number: C2933478; Resistance: 604k; Tolerance: 1%; Power: 125mW
footprint RES SMD 0805
pins: 1, 2

## RES 0805 604R 1%
designator C?, comment 604R
604R 1% 125mW 0805 Thick Film Resistor; Manufacturer: FOJAN; Manufacturer Part Number: FRC0805F6040TS; Voltage Rating: 150V; Supplier: LCSC; Supplier Part Number: C2999510; Resistance: 604R; Tolerance: 1%; Power: 125mW
footprint RES SMD 0805
pins: 1, 2

## RES 0805 619k 1%
designator C?, comment 619k
125mW 619kR 150V Thick Film Resistor 100ppm/â„ƒ 1% 0805 Chip Resistor - Surface Mount RoHS; Manufacturer: FOJAN; Manufacturer Part Number: FRC0805F6193TS; Supplier: LCSC; Supplier Part Number: C48533724; Resistance: 619k; Tolerance: 1%; Voltage Rating: 150V; Power: 125mW
footprint RES SMD 0805
pins: 1, 2

## RES 0805 620k 1%
designator C?, comment 620k
620kR 1% 125mW 0805 Thick Film Resistor; Manufacturer: FOJAN; Manufacturer Part Number: FRC0805F6203TS; Voltage Rating: 150V; Supplier: LCSC; Supplier Part Number: C2907278; Resistance: 620k; Tolerance: 1%; Power: 125mW
footprint RES SMD 0805
pins: 1, 2

## RES 0805 620mR 1%
designator C?, comment 620mR
620mR 1% 125mW 0805 Thick Film Resistor; Manufacturer: FOJAN; Manufacturer Part Number: FRL0805FR620TS; Voltage Rating: 300V; Supplier: LCSC; Supplier Part Number: C2930222; Resistance: 620mR; Tolerance: 1%; Power: 125mW
footprint RES SMD 0805
pins: 1, 2

## RES 0805 620mR 5%
designator C?, comment 620mR
620mR 5% 125mW 0805 Thick Film Resistor; Manufacturer: FOJAN; Manufacturer Part Number: FRL0805JR620TS; Voltage Rating: 300V; Supplier: LCSC; Supplier Part Number: C2934282; Resistance: 620mR; Tolerance: 5%; Power: 125mW
footprint RES SMD 0805
pins: 1, 2

## RES 0805 620R 1%
designator C?, comment 620R
620R 1% 125mW 0805 Thick Film Resistor; Manufacturer: FOJAN; Manufacturer Part Number: FRC0805F6200TS; Voltage Rating: 150V; Supplier: LCSC; Supplier Part Number: C2907279; Resistance: 620R; Tolerance: 1%; Power: 125mW
footprint RES SMD 0805
pins: 1, 2

## RES 0805 665k 1%
designator C?, comment 665k
125mW 665kR 150V Thick Film Resistor 100ppm/â„ƒ 1% 0805 Chip Resistor - Surface Mount RoHS; Manufacturer: FOJAN; Manufacturer Part Number: FRC0805F6653TS; Supplier: LCSC; Supplier Part Number: C48533721; Resistance: 665k; Tolerance: 1%; Voltage Rating: 150V; Power: 125mW
footprint RES SMD 0805
pins: 1, 2

## RES 0805 680k 1%
designator C?, comment 680k
680kR 1% 125mW 0805 Thick Film Resistor; Manufacturer: FOJAN; Manufacturer Part Number: FRC0805F6803TS; Voltage Rating: 150V; Supplier: LCSC; Supplier Part Number: C2907281; Resistance: 680k; Tolerance: 1%; Power: 125mW
footprint RES SMD 0805
pins: 1, 2

## RES 0805 680k 5%
designator C?, comment 680k
680kR 5% 125mW 0805 Thick Film Resistor; Manufacturer: FOJAN; Manufacturer Part Number: FRC0805J684 TS; Voltage Rating: 150V; Supplier: LCSC; Supplier Part Number: C2933563; Resistance: 680k; Tolerance: 5%; Power: 125mW
footprint RES SMD 0805
pins: 1, 2

## RES 0805 680mR 1%
designator C?, comment 680mR
680mR 1% 125mW 0805 Thick Film Resistor; Manufacturer: FOJAN; Manufacturer Part Number: FRL0805FR680TS; Voltage Rating: 300V; Supplier: LCSC; Supplier Part Number: C2934269; Resistance: 680mR; Tolerance: 1%; Power: 125mW
footprint RES SMD 0805
pins: 1, 2

## RES 0805 680mR 5%
designator C?, comment 680mR
680mR 5% 125mW 0805 Thick Film Resistor; Manufacturer: FOJAN; Manufacturer Part Number: FRL0805JR680TS; Voltage Rating: 300V; Supplier: LCSC; Supplier Part Number: C2934283; Resistance: 680mR; Tolerance: 5%; Power: 125mW
footprint RES SMD 0805
pins: 1, 2

## RES 0805 680R 1%
designator C?, comment 680R
680R 1% 125mW 0805 Thick Film Resistor; Manufacturer: FOJAN; Manufacturer Part Number: FRC0805F6800TS; Voltage Rating: 150V; Supplier: LCSC; Supplier Part Number: C2907282; Resistance: 680R; Tolerance: 1%; Power: 125mW
footprint RES SMD 0805
pins: 1, 2

## RES 0805 680R 1%_1
designator C?, comment 680R
680R 125mW Thick Film Resistor 1% 100ppm/â„ƒ 0805 Chip Resistor - Surface Mount RoHS; Manufacturer: FOJAN; Manufacturer Part Number: FRQ0805F6800TS; Supplier: LCSC; Supplier Part Number: C7468519; Resistance: 680R; Tolerance: 1%; Power: 125mW
footprint RES SMD 0805
pins: 1, 2

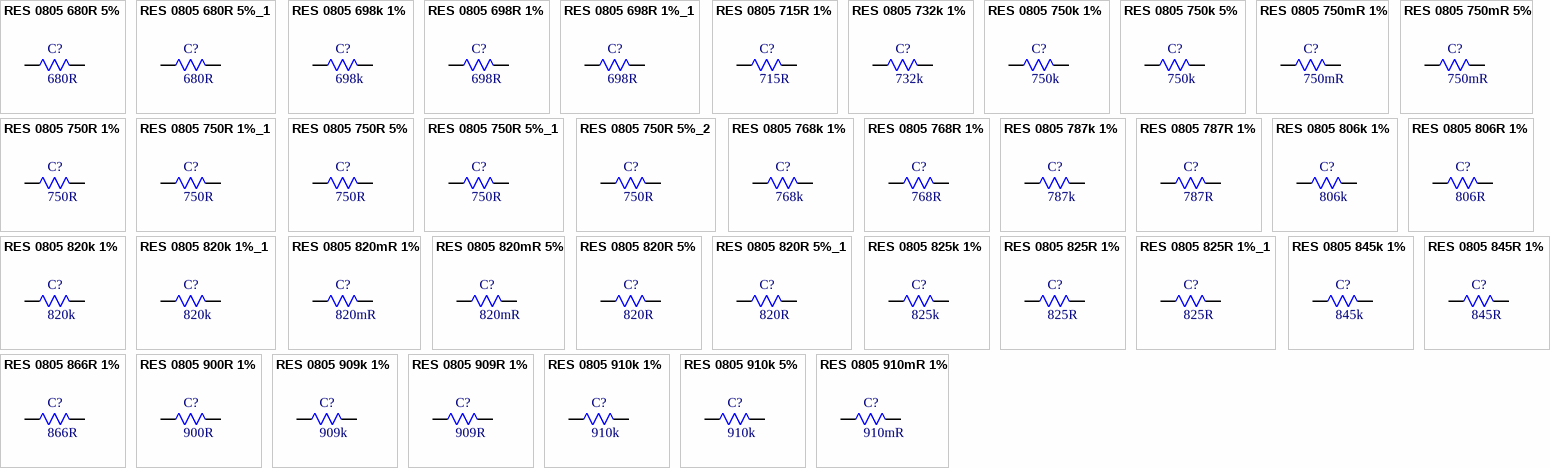
[diagram p56: symbols RES 0805 680R 5% to RES 0805 910mR 1%]

## RES 0805 680R 5%
designator C?, comment 680R
680R 5% 125mW 0805 Thick Film Resistor; Manufacturer: FOJAN; Manufacturer Part Number: FRC0805J681 TS; Voltage Rating: 150V; Supplier: LCSC; Supplier Part Number: C2907340; Resistance: 680R; Tolerance: 5%; Power: 125mW
footprint RES SMD 0805
pins: 1, 2